# Altium footprint library CON_CUI-PJ-202A.PcbLib: 1 footprints
Each footprint in its own frame and in the unit in brackets; x right, y up, seen from the top. Pads: shape width x height; smd on the part's side, far side on the other; paste and mask are expansions set on the pad; w line width, h text height; cw(c..) or ccw(c..) is an arc to the next point about the centre after c.
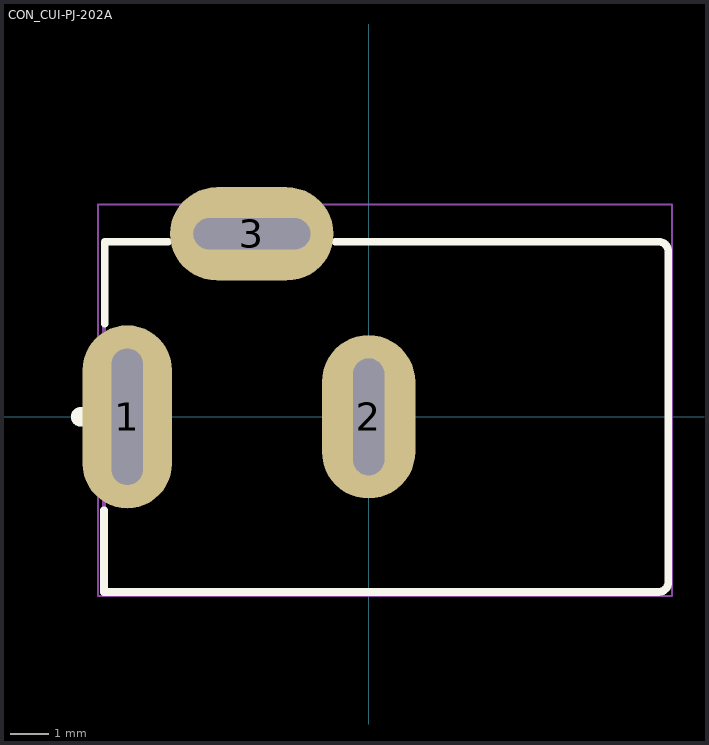
[diagram p0: the footprint, top view; thin cyan lines are the x and y axes]

## CON_CUI-PJ-202A [mm] "Power Jack, 3-Leads, Body 14.5x9mm"
height 11.1
pads (3):
  oval 2.3x4.7 hole 0.8 slot 3.5 at 90 deg: 1(-6.2,0)
  oval 2.4x4.2 hole 0.8 slot 3 at 90 deg: 2(0,0)
  oval 4.2x2.4 hole 0.8 slot 3 at 0 deg: 3(-3,4.7)
Top Overlay:
  circle w0.25: c-7.4,0 r0.125
  lines w0.2: -6.8,-4.5 -6.8,-2.4 ; -6.78,-4.5 7.45,-4.5 ccw(c7.45,-4.25) 7.7,-4.25 7.7,4.25 ccw(c7.45,4.25) 7.45,4.5 -0.85,4.5 ; -6.78,2.4 -6.78,4.5 -5.15,4.5
Mechanical 13:
  lines w0.1: -6.8,-4.5 -6.8,4.5 7.45,4.5 cw(c7.45,4.25) 7.7,4.25 7.7,-4.25 cw(c7.45,-4.25) 7.45,-4.5 -6.8,-4.5
Mechanical 15:
  lines w0.05: -6.95,-4.6 7.8,-4.6 7.8,5.45 -6.95,5.45 -6.95,-4.6
  lines w0.1: -0.5,0 0.5,0 ; 0,-0.5 0,0.5
3D body "KLDX-0202-A_rD2.STEP": height 10.8, standoff -4.1, extent -6.8,-4.5 7.7,4.9